# EAGLE library part FLOPPY_EXT (library Amiga)
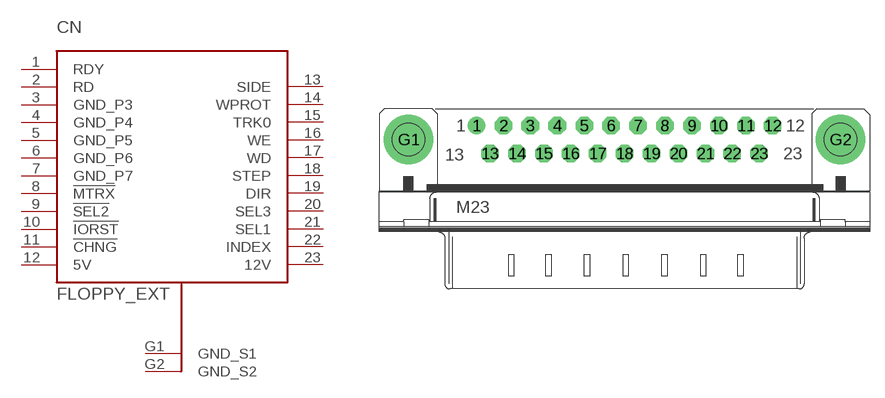
[diagram p28: symbol with the pads of M23H_FC; footprint M23H_FC]

Designator prefix CN

## FLOPPY_EXT_23D_SUB_M  [M23H_FC]
1  RDY
2  RD
3  GND_P3
4  GND_P4
5  GND_P5
6  GND_P6
7  GND_P7
8  !MTRX!
9  !SEL2!
10  !IORST!
11  !CHNG!
12  5V
13  SIDE
14  WPROT
15  TRK0
16  WE
17  WD
18  STEP
19  DIR
20  SEL3
21  SEL1
22  INDEX
23  12V
G1  GND_S1  pwr
G2  GND_S2  pwr

## Footprint M23H_FC (pad centres in mm)
drill 1.1 pad 1.8: 1 -15.172,1.429
drill 1.1 pad 1.8 octagon: 2 -12.403,1.429; 3 -9.66,1.429; 4 -6.891,1.429; 5 -4.123,1.429; 6 -1.379,1.429; 7 1.389,1.429; 8 4.158,1.429; 9 6.901,1.429; 10 9.669,1.429; 11 12.438,1.429; 12 15.181,1.429; 13 -13.8,-1.429; 14 -11.031,-1.429; 15 -8.263,-1.429; 16 -5.52,-1.429; 17 -2.751,-1.429; 18 0.018,-1.429; 19 2.761,-1.429; 20 5.529,-1.429; 21 8.298,-1.429; 22 11.041,-1.429; 23 13.81,-1.429
drill 3.302 pad 5.08: G1 -22.131,0; G2 22.131,0